# Altium schematic symbol library Modules.SchLib: 7 symbols
Pins are listed as number, name and electrical type; pins without a type are passive.

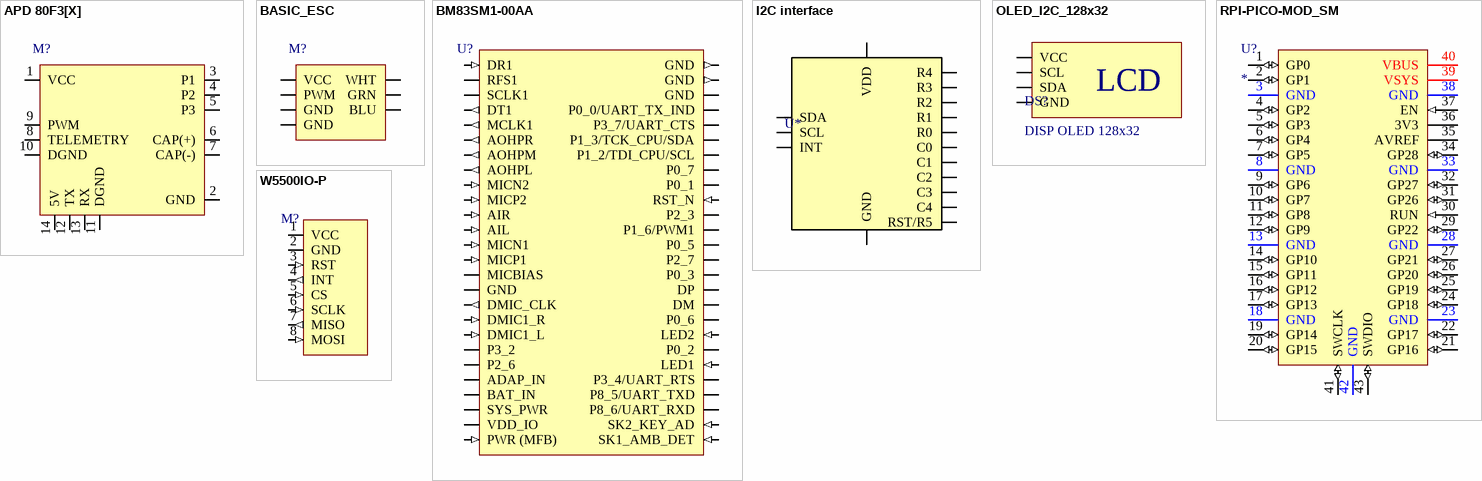
[diagram p0: symbols APD 80F3[X] to W5500IO-P]

## APD 80F3[X]
designator M?  (value not drawn)
Advanced Power Drives 80F3[X] ESC | 15-35V | 80A; Max Current: 80A Continuous; ComponentLink1Description: General Info; ComponentLink1URL: https://powerdrives.net/80f3; ComponentLink2Description: Data Sheet; ComponentLink2URL: https://docs.powerdrives.net/products/f-series-esc/overview; Created By: Nathan Ayer; Voltage: 15-35V; Manufacturer: Advanced Power Drives
footprint APD 80F3[X] (Advanced Power Drives 80F3[X] ESC)
pins: 1 VCC, 2 GND, 3 P1, 4 P2, 5 P3, 6 CAP(+), 7 CAP(-), 8 TELEMETRY, 9 PWM, 10 DGND, 11 DGND, 12 TX, 13 RX, 14 5V

## BASIC_ESC
designator M?, comment Basic ESC  (value not drawn)
Blue Robotics Basic ESC / 7-26V Power, 30A, 5V PWM Signal; Manufacturer Part Number: BESC30-R3; Current: 30A Max; Created By: Flip B; Voltage: 7-26V; PWM Voltage: 5V; Manufacturer: Blue Robotics
footprint BASIC_ESC (Blue Robotics Basic ESC Module)
pins: 1 GND, 2 GND, 3 PWM, 4 VCC, 5 BLU, 6 GRN, 7 WHT

## BM83SM1-00AA
designator U?, comment RF TXRX MOD BT PCB TH SMD  (value not drawn)
Bluetooth Bluetooth v5.0 Transceiver Module 2.4GHz ~ 2.48GHz PCB Trace Surface Mount
footprint BM83SM1-00AA (Bluetooth Bluetooth v5.0 Transceiver Module 2.4GHz ~ 2.48GHz PCB Trace Surface Mount)
pins: 1 DR1 (in), 2 RFS1 (io), 3 SCLK1 (io), 4 DT1 (out), 5 MCLK1 (out), 6 AOHPR (out), 7 AOHPM (out), 8 AOHPL (out), 9 MICN2 (in), 10 MICP2 (in), 11 AIR (in), 12 AIL (in), 13 MICN1 (in), 14 MICP1 (in), 15 MICBIAS (power), 16 GND (power), 17 DMIC_CLK (out), 18 DMIC1_R (in), 19 DMIC1_L (in), 20 P3_2 (io), 21 P2_6 (io), 22 ADAP_IN (power), 23 BAT_IN (power), 24 SYS_PWR (power), 25 VDD_IO (power), 26 PWR (MFB) (in), 27 SK1_AMB_DET (in), 28 SK2_KEY_AD (in), 29 P8_6/UART_RXD (io), 30 P8_5/UART_TXD (io), 31 P3_4/UART_RTS (io), 32 LED1 (in), 33 P0_2 (io), 34 LED2 (in), 35 P0_6 (io), 36 DM (io), 37 DP (io), 38 P0_3 (io), 39 P2_7 (io), 40 P0_5 (io), 41 P1_6/PWM1 (io), 42 P2_3 (io), 43 RST_N (in), 44 P0_1 (io), 45 P0_7 (io), 46 P1_2/TDI_CPU/SCL (io), 47 P1_3/TCK_CPU/SDA (io), 48 P3_7/UART_CTS (io), 49 P0_0/UART_TX_IND (io), 50 GND (power), 51 GND (out), 52 GND (out)

## I2C interface
designator U*, comment ADP5585ACPZ-01-R7  (value not drawn)
Supplier 1: Mouser; Supplier Part Number 1: 584-ADP5585ACPZ-01R7
footprint QFN50P300X300X80-17N
pins: 1 R4, 2 R3, 3 R2, 4 R1, 5 R0, 6 C0, 7 C1, 8 C2, 9 C3, 10 C4, 11 RST/R5, 12 VDD, 13 GND, 14 SDA, 15 SCL, 16 INT

## OLED_I2C_128x32
designator DS?, comment DISP OLED 128x32
0.91'' 128x32 I2C OLED LCD Display Module; Made By: Robert Pafford; Input Voltage: 3.3V, 5V; Protocol: I2C; Display Size: 128x32
footprint OLED_I2C_128x32
pins: 1 GND, 2 VCC, 3 SCL, 4 SDA
text: LCD

## RPI-PICO-MOD_SM
designator U?
RASPBERRY PI PICO RP2040 BOARD NO TEST PADS; Manufacturer: Raspberry Pi Foundation; Manufacturer Part No: SC0915; Mounting Technology: SMT; Supplier: DigiKey; Supplier Part No: 2648-SC0915CT-ND; Supplier Link: https://www.digikey.com/en/products/detail/raspberry-pi/SC0915/13684020; ComponentLink1Description: Footprint Source; ComponentLink1URL: https://github.com/amgsus/RPi-Pico-Altium
footprint RPI-PICO-MOD (RASPBERRY PI PICO RP2040 BOARD)
pins: 1 GP0 (io), 2 GP1 (io), 3 GND (power), 4 GP2 (io), 5 GP3 (io), 6 GP4 (io), 7 GP5 (io), 8 GND (power), 9 GP6 (io), 10 GP7 (io), 11 GP8 (io), 12 GP9 (io), 13 GND (power), 14 GP10 (io), 15 GP11 (io), 16 GP12 (io), 17 GP13 (io), 18 GND (power), 19 GP14 (io), 20 GP15 (io), 21 GP16 (io), 22 GP17 (io), 23 GND (power), 24 GP18 (io), 25 GP19 (io), 26 GP20 (io), 27 GP21 (io), 28 GND (power), 29 GP22 (io), 30 RUN (in), 31 GP26 (io), 32 GP27 (io), 33 GND (power), 34 GP28 (io), 35 AVREF (power), 36 3V3 (power), 37 EN (in), 38 GND (power), 39 VSYS (power), 40 VBUS (power), 41 SWCLK (io), 42 GND (power), 43 SWDIO (io)

## W5500IO-P
designator M?, comment W5x00 Breakout Board  (value not drawn)
W5x00 Breakout Board (W5500IO-P Compatible boards); Made By: Robert Pafford; Voltage: 3.3V; ComponentLink1Description: Product Webpage; ComponentLink1URL: https://maker.wiznet.io/2019/04/02/w5500io-p/
footprint W5500IO-P
pins: 1 VCC (power), 2 GND (power), 3 RST (in), 4 INT (out), 5 CS (in), 6 SCLK (in), 7 MISO (out), 8 MOSI (in)